# Altium schematic symbol library reed_switch.SchLib: 1 symbol
Pins are listed as number, name and electrical type; pins without a type are passive.

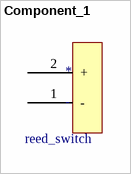
[diagram p0: symbol Component_1]

## Component_1
designator *, comment -  Catergories: reed_switch
pins: 1 -, 2 +